# Altium footprint library Stanley7Seg.PcbLib: 1 footprints
Each footprint in its own frame and in the unit in brackets; x right, y up, seen from the top. Pads: shape width x height; smd on the part's side, far side on the other; paste and mask are expansions set on the pad; w line width, h text height; cw(c..) or ccw(c..) is an arc to the next point about the centre after c.
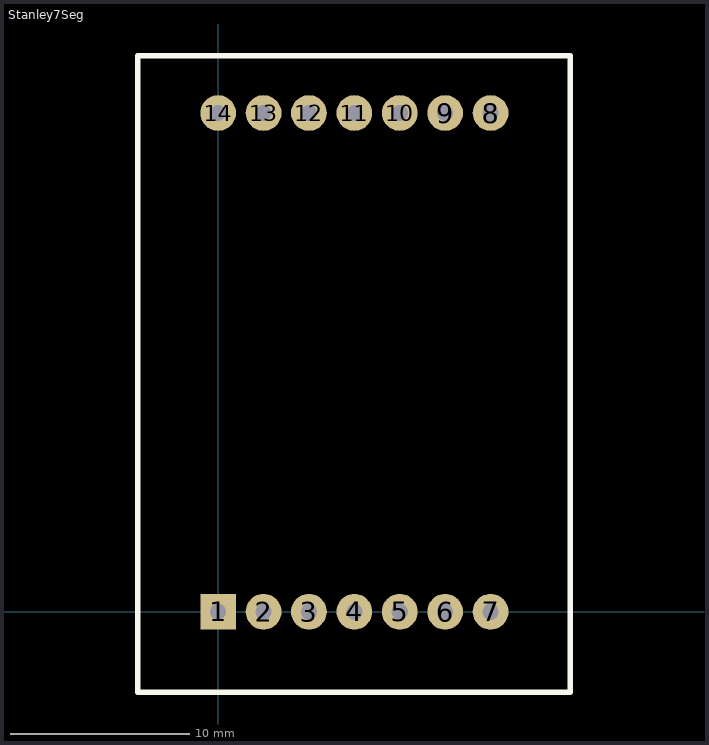
[diagram p0: the footprint, top view; thin cyan lines are the x and y axes]

## Stanley7Seg [mm]
pads (14):
  rect 2x2 hole 0.9: 1(0,0)
  round 2 hole 0.9: 2(2.54,0) 3(5.08,0) 4(7.62,0) 5(10.16,0) 6(12.7,0) 7(15.24,0) 8(15.24,27.9) 9(12.7,27.9) 10(10.16,27.9) 11(7.62,27.9) 12(5.08,27.9) 13(2.54,27.9) 14(0,27.9)
Top Overlay:
  lines w0.3: -4.5,-4.5 -4.5,31.1 19.7,31.1 19.7,-4.5 -4.5,-4.5
3D body: height 9, standoff 0, extent -3.78,-3.8 19.02,30.5